# Altium footprint library Components.PcbLib: 15 footprints
Each footprint in its own frame and in the unit in brackets; x right, y up, seen from the top. Pads: shape width x height; smd on the part's side, far side on the other; paste and mask are expansions set on the pad; w line width, h text height; cw(c..) or ccw(c..) is an arc to the next point about the centre after c.
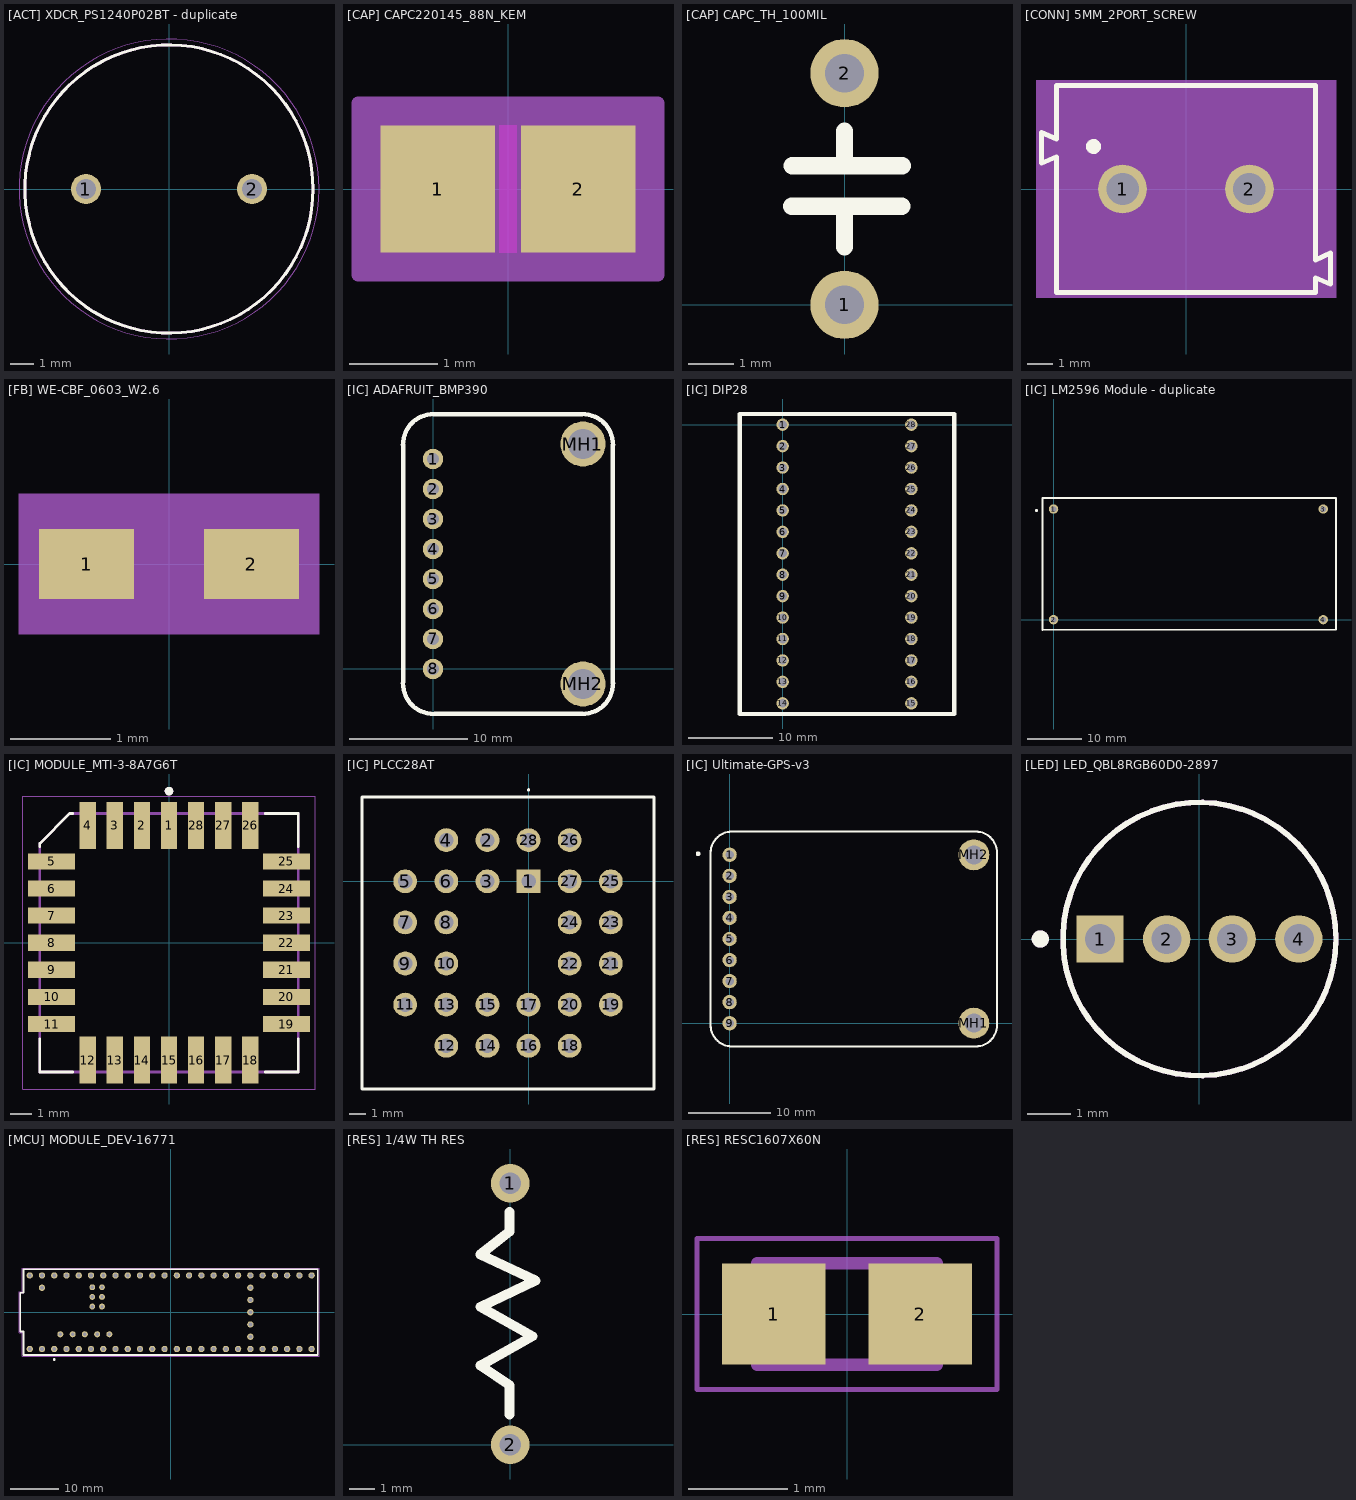
[diagram p0: the footprints below, top view; thin cyan lines are the x and y axes]

## [ACT] XDCR_PS1240P02BT - duplicate [mm]
pads (2):
  round 1.28 hole 0.85: 1(-3.516,0) 2(3.516,0)
Top Overlay:
  circle w0.127: c0,0 r6.1
Mechanical 13:
  circle w0.127: c0,0 r6.1
Mechanical 15:
  circle w0.05: c0,0 r6.35
3D body "PS1240P02BT.STEP": height 6.51, standoff -14.49, extent -6.1,-5.973 6.1,6.227

## [CAP] CAPC220145_88N_KEM [mm]
pads (2):
  rect 1.306x1.45 smd paste+0 mask+0: 1(-0.803,0) 2(0.803,0)
Top Layer keep-out:
  region: -0.099,-0.674 -0.099,0.674 0.099,0.674 0.099,-0.674
Keep-Out Layer:
  region: -0.099,-0.725 -0.099,0.725 0.099,0.725 0.099,-0.725
Mechanical 13:
  lines w0.025: -1.1,-0.725 -1.1,0.725 ; -1.1,-0.725 -0.35,-0.725 -0.35,0.725 -1.1,0.725 ; -1.1,-0.725 1.1,-0.725 ; -1.1,-0.725 -1.1,0.725 ; -1.1,0.725 1.1,0.725 ; 1.1,-0.725 0.35,-0.725 0.35,0.725 1.1,0.725 ; 1.1,-0.725 1.1,0.725 ; 1.1,-0.725 1.1,0.725
Mechanical 15:
  region: 1.71,-0.979 -1.71,-0.979 -1.71,0.979 1.71,0.979
  lines w0.152: -1.71,-0.979 -1.71,0.979 1.71,0.979 1.71,-0.979 -1.71,-0.979
3D body "CAPC220145_88N_KEM.step": height 0.88, standoff 0, extent -1.1,-0.725 1.1,0.725

## [CAP] CAPC_TH_100MIL [mm] "through hole cap with 100mil clearance"
pads (2):
  round 1.5 hole 0.85: 1(0,0) 2(0,5.08)
Top Overlay:
  lines w0.381: -1.161,2.16 1.252,2.16 ; -1.143,3.048 1.27,3.048 0,3.048 0,3.81 ; 0,1.27 0,2.159
Bottom Overlay:
  lines w0.381: -1.161,2.16 1.252,2.16 ; -1.143,3.048 1.27,3.048 0,3.048 0,3.81 ; 0,1.27 0,2.159

## [CONN] 5MM_2PORT_SCREW [mm] "5.08 mm pitch 2 port screw terminal / 691213510002"
pads (2):
  round 1.95 hole 1.3: 1(-2.54,0) 2(2.54,0)
Top Overlay:
  circle w0.4: c-3.7,1.7 r0.1
  lines w0.2: -5.78,1.03 -5.18,1.29 -5.18,-4.15 5.18,-4.15 5.18,-3.55 5.78,-3.81 5.78,-2.56 5.18,-2.84 5.18,4.15 -5.18,4.15 -5.18,2 -5.78,2.26 -5.78,1.03
Mechanical 13:
  lines w0.1: -5.68,1.13 -5.68,2.16 -5.08,1.9 -5.08,4.05 5.08,4.05 5.08,-2.94 5.68,-2.68 5.68,-3.71 5.08,-3.45 5.08,-4.05 -5.08,-4.05 -5.08,1.39 -5.68,1.13
Mechanical 15:
  region: 6,-4.35 -6,-4.35 -6,4.35 6,4.35
3D body "step_temp.STEP": height 10, standoff -3.5, extent -5.68,-4.036 5.68,4.064

## [FB] WE-CBF_0603_W2.6 [mm]
pads (2):
  rect 0.95x0.7 smd: 1(-0.825,0) 2(0.825,0)
Mechanical 13:
  lines w0.1: -0.8,-0.4 0.8,-0.4 0.8,0.4 -0.8,0.4 -0.8,-0.4
Mechanical 15:
  region: 1.5,-0.7 -1.5,-0.7 -1.5,0.7 1.5,0.7
3D body "step_temp.STEP": height 0.78, standoff -0.02, extent -0.8,-0.4 0.8,0.4

## [IC] ADAFRUIT_BMP390 [mm]
pads (10):
  round 1.724 hole 1.02: 1(0,17.78) 2(0,15.24) 3(0,12.7) 4(0,10.16) 5(0,7.62) 6(0,5.08) 7(0,2.54) 8(0,0)
  round 3.81 hole 2.54: MH1(12.7,19.05) MH2(12.7,-1.27)
Top Overlay:
  lines w0.381: -2.541,-1.206 ccw(c0.064,-1.206) 0.063,-3.811 ; -2.541,18.986 cw(c0.064,18.986) 0.064,21.591 ; -2.54,-1.143 -2.54,19.05 ; 0,21.59 12.637,21.59 ; 0.127,-3.81 12.7,-3.81 ; 12.636,-3.811 ccw(c12.636,-1.206) 15.241,-1.207 ; 12.636,21.591 cw(c12.636,18.986) 15.241,18.986 ; 15.24,-1.27 15.24,18.987
3D body "Adafruit BMP390 - Precision Barometric Pressure and Altimeter.step": height 7.07, standoff 2.58, extent -2.54,-3.81 15.24,21.59

## [IC] DIP28 [mil]
pads (28):
  round 58 hole 40: 1(0,0) 2(0,-100) 3(0,-200) 4(0,-300) 5(0,-400) 6(0,-500) 7(0,-600) 8(0,-700) 9(0,-800) 10(0,-900) 11(0,-1000) 12(0,-1100) 13(0,-1200) 14(0,-1300) 15(600,-1300) 16(600,-1200) 17(600,-1100) 18(600,-1000) 19(600,-900) 20(600,-800) 21(600,-700) 22(600,-600) 23(600,-500) 24(600,-400) 25(600,-300) 26(600,-200) 27(600,-100) 28(600,0)
Top Overlay:
  lines w19.68: -200,-1350 800,-1350 800,50 -200,50 -200,-1350

## [IC] LM2596 Module - duplicate [mm]
pads (4):
  round 1.724 hole 1.02: 1(0,20.32) 2(0,0) 3(49.53,20.32) 4(49.53,0)
Top Overlay:
  circle w0.381: c-3.15,20.05 r0.076
  lines w0.381: -2,-1.9 51.875,-1.8 51.875,22.35 -2,22.35 -2,-1.9
3D body "XL4015_5A.step": height 15.06, standoff -2.83, extent -1.85,-1.9 51.801,22.265

## [IC] MODULE_MTI-3-8A7G6T [mm] "IMU"
pads (28):
  rect 0.76x2.2 smd: 1(0,5.5) 2(-1.27,5.5) 3(-2.54,5.5) 4(-3.81,5.5) 12(-3.81,-5.5) 13(-2.54,-5.5) 14(-1.27,-5.5) 15(0,-5.5) 16(1.27,-5.5) 17(2.54,-5.5) 18(3.81,-5.5) 26(3.81,5.5) 27(2.54,5.5) 28(1.27,5.5)
  rect 2.2x0.76 smd: 5(-5.5,3.81) 6(-5.5,2.54) 7(-5.5,1.27) 8(-5.5,0) 9(-5.5,-1.27) 10(-5.5,-2.54) 11(-5.5,-3.81) 19(5.5,-3.81) 20(5.5,-2.54) 21(5.5,-1.27) 22(5.5,0) 23(5.5,1.27) 24(5.5,2.54) 25(5.5,3.81)
Top Overlay:
  circle w0.2: c0,7.1 r0.1
  lines w0.127: -6.05,-4.51 -6.05,-6.05 -4.51,-6.05 ; -6.05,4.51 -6.05,4.65 -4.65,6.05 -4.51,6.05 ; 4.51,-6.05 6.05,-6.05 6.05,-4.51 ; 4.51,6.05 6.05,6.05 6.05,4.51
Mechanical 13:
  circle w0.2: c0,7.1 r0.1
  lines w0.127: -6.05,-6.05 6.05,-6.05 6.05,6.05 -4.65,6.05 -6.05,4.65 -6.05,-6.05
Mechanical 15:
  lines w0.05: -6.85,-6.85 -6.85,6.85 6.85,6.85 6.85,-6.85 -6.85,-6.85

## [IC] PLCC28AT [mil] "Used for MTI IMU"
pads (28):
  rect 58x58 hole 35: 1(0,0)
  round 58 hole 35: 2(-100,100) 3(-100,0) 4(-200,100) 5(-300,0) 6(-200,0) 7(-300,-100) 8(-200,-100) 9(-300,-200) 10(-200,-200) 11(-300,-300) 12(-200,-400) 13(-200,-300) 14(-100,-400) 15(-100,-300) 16(0,-400) 17(0,-300) 18(100,-400) 19(200,-300) 20(100,-300) 21(200,-200) 22(100,-200) 23(200,-100) 24(100,-100) 25(200,0) 26(100,100) 27(100,0) 28(0,100)
Top Overlay:
  lines w3.94: 0,220.47 cw(c0,222.44) 0,224.41 cw(c0,222.44) 0,220.47
  lines w7.87: -405.12,-505.12 -405.12,205.12 305.12,205.12 305.12,-505.12 -405.12,-505.12
Mechanical 15:
  lines w3.94: -405.12,-505.12 -405.12,205.12 305.12,205.12 305.12,-505.12 -405.12,-505.12
3D body "PLCC-28-AT.stp": height 318.9, standoff -125.98, extent -405.12,-505.12 305.12,205.12

## [IC] Ultimate-GPS-v3 [mm]
pads (11):
  round 1.724 hole 1.02: 1(0,20.32) 2(0,17.78) 3(0,15.24) 4(0,12.7) 5(0,10.16) 6(0,7.62) 7(0,5.08) 8(0,2.54) 9(0,0)
  round 3.748 hole 2.286: MH1(29.464,0) MH2(29.464,20.32)
Top Overlay:
  circle w0.3: c-3.81,20.447 r0.127
  lines w0.254: -2.286,-0.254 ccw(c0.254,-0.254) 0.254,-2.794 29.718,-2.794 ccw(c29.718,-0.254) 32.258,-0.254 32.258,20.574 ccw(c29.718,20.574) 29.718,23.114 0.254,23.114 ccw(c0.254,20.574) -2.286,20.574 -2.286,-0.254
3D body "746 (1).STEP": height 9.55, standoff -0.13, extent -2.032,-2.54 32.004,22.86

## [LED] LED_QBL8RGB60D0-2897 [mm]
height 8.65
pads (4):
  rect 1.1x1.1 / inner round 1.1 / far side rect 1.1x1.1 hole 0.7: 1(-2.311,0)
  round 1.1 hole 0.7: 2(-0.762,0) 3(0.762,0) 4(2.311,0)
Top Overlay:
  circle w0.127: c0,0 r3.175
  circle w0.2: c-3.7,0 r0.1
Mechanical 13:
  circle w0.127: c0,0 r3.175
  circle w0.2: c-3.7,0 r0.1
Mechanical 15:
  circle w0.05: c0,0 r3.175
3D body "step_temp.STEP": height 8.65, standoff -27, extent -2.925,-2.925 2.4,2.925

## [MCU] MODULE_DEV-16771 [mm]
height 4.07
pads (65):
  round 1.308 hole 0.8: 0(-26.67,-7.62) 1(-24.13,-7.62) 2(-21.59,-7.62) 3(-19.05,-7.62) 3.3V_1(6.35,-7.62) 3.3V_2(-24.13,7.62) 3.3V_3(16.51,-2.54) 4(-16.51,-7.62) 5(-13.97,-7.62) 6(-11.43,-7.62) 7(-8.89,-7.62) 8(-6.35,-7.62) 9(-3.81,-7.62) 10(-1.27,-7.62) 11(1.27,-7.62) 12(3.81,-7.62) 13(3.81,7.62) 14(1.27,7.62) 15(-1.27,7.62) 16(-3.81,7.62) 17(-6.35,7.62) 18(-8.89,7.62) 19(-11.43,7.62) 20(-13.97,7.62) 21(-16.51,7.62) 22(-19.05,7.62) 23(-21.59,7.62) 24(8.89,-7.62) 25(11.43,-7.62) 26(13.97,-7.62) 27(16.51,-7.62) 28(19.05,-7.62) 29(21.59,-7.62) 30(24.13,-7.62) 31(26.67,-7.62) 32(29.21,-7.62) 33(29.21,7.62) 34(26.67,7.62) 35(24.13,7.62) 36(21.59,7.62) 37(19.05,7.62) 38(16.51,7.62) 39(13.97,7.62) 40(11.43,7.62) 41(8.89,7.62) GND1(-29.21,-7.62) GND2(6.35,7.62) GND3(-26.67,7.62) GND4(16.51,0) ON/OFF(16.51,5.08) PROGRAM(16.51,2.54) VBAT(16.51,-5.08) VIN(-29.21,7.62) VUSB(-26.67,5.08)
  round 1.258 hole 0.75: 5V(-22.86,-4.57) D+(-17.78,-4.57) D-(-20.32,-4.57) USB_GND1(-15.24,-4.57) USB_GND2(-12.7,-4.57)
  round 1.208 hole 0.7: GND5(-14.24,3.17) LED(-16.24,3.17) R+(-16.24,5.17) R-(-14.24,5.17) T+(-14.24,1.17) T-(-16.24,1.17)
Top Overlay:
  circle w0.381: c-24.13,-9.779 r0.1
  lines w0.381: -31.18,-4.03 -30.48,-4.03 -30.48,-8.89 30.48,-8.89 30.48,8.89 -30.48,8.89 -30.48,4.03 -31.18,4.03 -31.18,-4.03
Mechanical 13:
  circle w0.2: c-24.13,-9.779 r0.1
  lines w0.127: -31.18,-4.03 -30.48,-4.03 -30.48,-8.89 30.48,-8.89 30.48,8.89 -30.48,8.89 -30.48,4.03 -31.18,4.03 -31.18,-4.03
  text "Teensy 4.1" at -0.25,0.34 h1.27
Mechanical 15:
  lines w0.05: -31.43,-4.28 -30.73,-4.28 -30.73,-9.14 30.73,-9.14 30.73,9.14 -30.73,9.14 -30.73,4.28 -31.43,4.28 -31.43,-4.28
3D body "step_temp.STEP": height 7.15, standoff -6.7, extent -31.18,-8.89 30.48,8.89

## [RES] 1/4W TH RES [mm]
pads (2):
  round 1.5 hole 0.85: 1(0,10.16) 2(0,0)
Top Overlay:
  lines w0.381: -0.025,1.168 -0.025,2.311 -1.168,3.073 0.864,4.216 -1.168,5.359 0.991,6.375 -1.168,7.391 -0.025,8.28 -0.025,9.042
Bottom Overlay:
  lines w0.381: -0.025,1.168 -0.025,2.311 -1.168,3.073 0.864,4.216 -1.168,5.359 0.991,6.375 -1.168,7.391 -0.025,8.28 -0.025,9.042

## [RES] RESC1607X60N [mm]
pads (2):
  rect 1.04x1.02 smd: 1(-0.735,0) 2(0.735,0)
Mechanical 13:
  lines w0.127: -0.9,-0.51 0.9,-0.51 0.9,0.51 -0.9,0.51 -0.9,-0.51
Mechanical 15:
  lines w0.05: -1.508,-0.761 1.508,-0.761 1.508,0.761 -1.508,0.761 -1.508,-0.761
3D body "step_temp.STEP": height 0.55, standoff 0, extent -0.8,-0.4 0.8,0.4